# Altium schematic symbol library TSschem.SchLib: 23 symbols
Pins are listed as number, name and electrical type; pins without a type are passive.

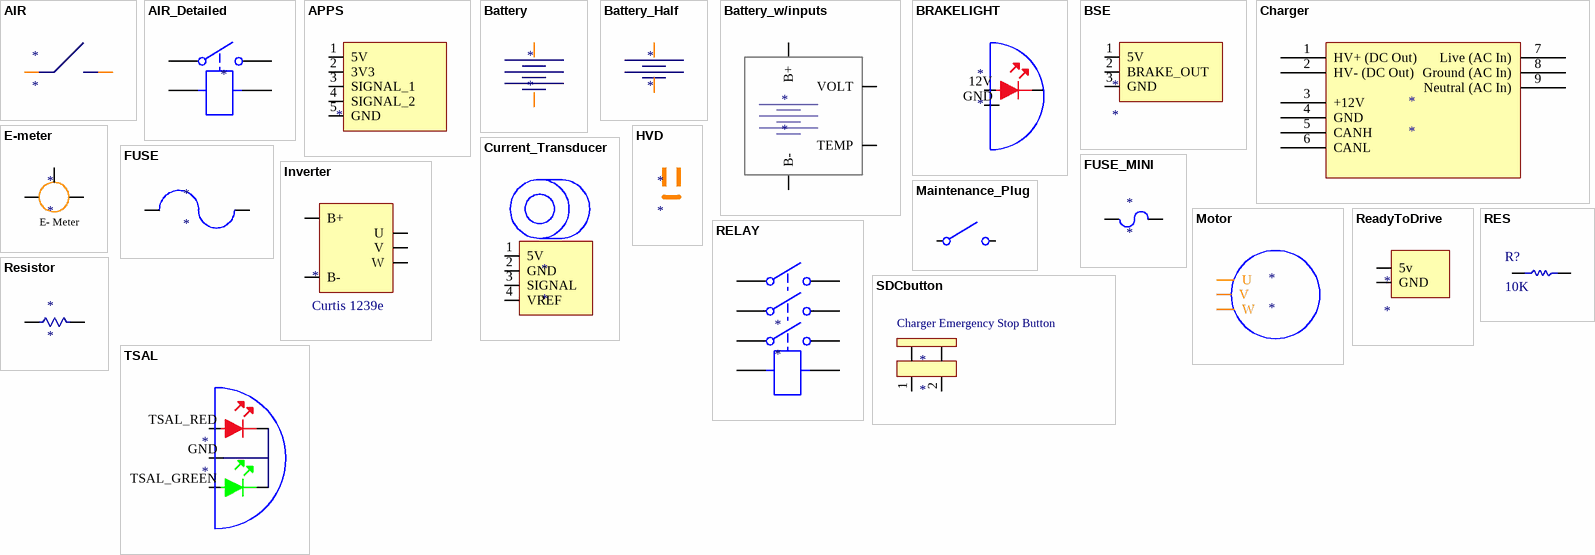
[diagram p0: symbols AIR to TSAL]

## AIR
designator *
pins: 1, 2

## AIR_Detailed
designator *
pins: 4, 4, 4, 4

## APPS
designator ?
pins: 1 5V, 2 3V3, 3 SIGNAL_1, 4 SIGNAL_2, 5 GND

## Battery
designator *
pins: 1, 2

## Battery_Half
designator *
pins: 1, 2

## Battery_w/inputs
designator *
pins: 1 B+, 2 B-, 3 VOLT, 4 TEMP

## BRAKELIGHT
designator *
pins: 2, 12V 1, GND 2

## BSE
designator *
pins: 1 5V, 2 BRAKE_OUT, 3 GND

## Charger
designator *
pins: 1 HV+ (DC Out), 2 HV- (DC Out), 3 +12V, 4 GND, 5 CANH, 6 CANL, 7 Live (AC In), 8 Ground (AC In), 9 Neutral (AC In)

## Current_Transducer
designator *
pins: 1 5V, 2 GND, 3 SIGNAL, 4 VREF

## E-meter
designator *
pins: ?1 2, ?2 2, ?3 2
text: E- Meter /

## FUSE
designator *
pins: 1, 2

## FUSE_MINI
designator *
pins: 1, 2

## HVD
designator *

## Inverter
designator *, comment Curtis 1239e
pins: 1 B-, 2 B+, 3 U, 4 V, 5 W

## Maintenance_Plug
designator Plug  (value not drawn)
pins: 4, 4

## Motor
designator *
pins: 3 U, 4 V, 5 W

## ReadyToDrive
designator *
pins: 1 5v, 2 GND

## RELAY
designator *
pins: 4, 4, 4, 4, 4, 4, 4, 4

## RES
designator R?, comment 10K
pins: 1, 2

## Resistor
designator *
pins: 1, 2

## SDCbutton
designator *
pins: 1, 2
text: Charger Emergency Stop Button

## TSAL
designator *
pins: 2, 2, GND 3, TSAL_GREEN 1, TSAL_RED 1